# Altium schematic symbol library CAP_GCJ188R71C104KA01D.SchLib: 1 symbol
Pins are listed as number, name and electrical type; pins without a type are passive.

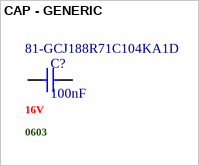
[diagram p0: symbol CAP - GENERIC]

## CAP - GENERIC
designator C?, comment 100nF  .Case/Package: 0603  .Voltage Rating (DC): 16V  Supplier Part Number 1: 81-GCJ188R71C104KA1D
Ceramic Capacitor, Ceramic, 16V, 10% +Tol, 10% -Tol, X7R, 15% TC, 0.1uF, Surface Mount, 0603; Manufacturer: Murata; Manufacturer Part Number: GCJ188R71C104KA01D; Manufacturer Lifecycle Status: IN PRODUCTION; Supplier 1: Mouser; RoHS: Compliant; Category: Ceramic Capacitors; Stock 1: 83275; Pricing 1: 1=0,16, 10=0,065, 50=0,065, 100=0,054, 1000=0,039, 10000=0,022 (USD); Capacitance: 100nF; Case/Package: 0603; Case Code (Imperial): 0603; Case Code (Metric): 1608; Depth: 800µm; Dielectric: X7R; Dielectric Material: Ceramic; Features: Soft Termination; Height: 800µm; Length: 1.6mm; Lifecycle Status: Production; Material: Ceramic; Max Operating Temperature: 125°C; Min Operating Temperature: -55°C; Mount: Surface Mount; Number of Terminals: 2; Radiation Hardening: No; Ratings: AEC-Q200; REACH SVHC: Yes; Schedule B: 8532240020, 8532240020|8532240020|8532240020|8532240020|8532240020|8532240020|8532240020|8532240020|8532240020|8532240020|8532240020|8532240020|8532240020|8532240020|8532240020|8532240020|8532240020|8532240020|8532240020|8532240020|8532240020|8532240020|8532240020|85; Termination: SMD/SMT; Tolerance: 10%; Voltage Rating: 16V; Voltage Rating (DC): 16V; Width: 800µm; ComponentLink1URL: https://datasheet.octopart.com:443/GCJ188R71C104KA01D-Murata-datasheet-141264586.pdf?src-supplier=Geoflip; ComponentLink1Description: https://datasheet.octopart.com:443/GCJ188R71C104KA01D-Murata-datasheet-141264586.pdf?src-supplier=Geoflip; ComponentLink2URL: https://datasheet.octopart.com:443/GCJ188R71C104KA01D-Murata-datasheet-140654670.pdf?src-supplier=Ciiva; ComponentLink2Description: https://datasheet.octopart.com:443/GCJ188R71C104KA01D-Murata-datasheet-140654670.pdf?src-supplier=Ciiva; ComponentLink3URL: https://datasheet.octopart.com:443/GCJ188R71C104KA01D-Murata-datasheet-138714343.pdf?src-supplier=Ciiva; ComponentLink3Description: https://datasheet.octopart.com:443/GCJ188R71C104KA01D-Murata-datasheet-138714343.pdf?src-supplier=Ciiva; ComponentLink4URL: https://datasheet.octopart.com:443/GCJ188R71C104KA01D-Murata-datasheet-165611796.pdf?src-supplier=TME; ComponentLink4Description: https://datasheet.octopart.com:443/GCJ188R71C104KA01D-Murata-datasheet-165611796.pdf?src-supplier=TME; ComponentLink5URL: https://datasheet.octopart.com:443/GCJ188R71C104KA01D-Murata-datasheet-118179445.pdf?src-supplier=LCSC; ComponentLink5Description: https://datasheet.octopart.com:443/GCJ188R71C104KA01D-Murata-datasheet-118179445.pdf?src-supplier=LCSC; ComponentLink6URL: https://datasheet.octopart.com/GCJ188R71C104KA01D-Murata-datasheet-14405600.pdf; ComponentLink6Description: https://datasheet.octopart.com/GCJ188R71C104KA01D-Murata-datasheet-14405600.pdf; ComponentLink7URL: http://sigma.octopart.com:80/reach_statement/Murata-company-16.pdf?src-supplier=Compliance+Statements; ComponentLink7Description: http://sigma.octopart.com:80/reach_statement/Murata-company-16.pdf?src-supplier=Compliance+Statements
footprint C0603 - MURATA
pins: 1, 2